# Altium schematic symbol library 三电平变换器.SCHLIB: 105 symbols
Pins are listed as number, name and electrical type; pins without a type are passive.

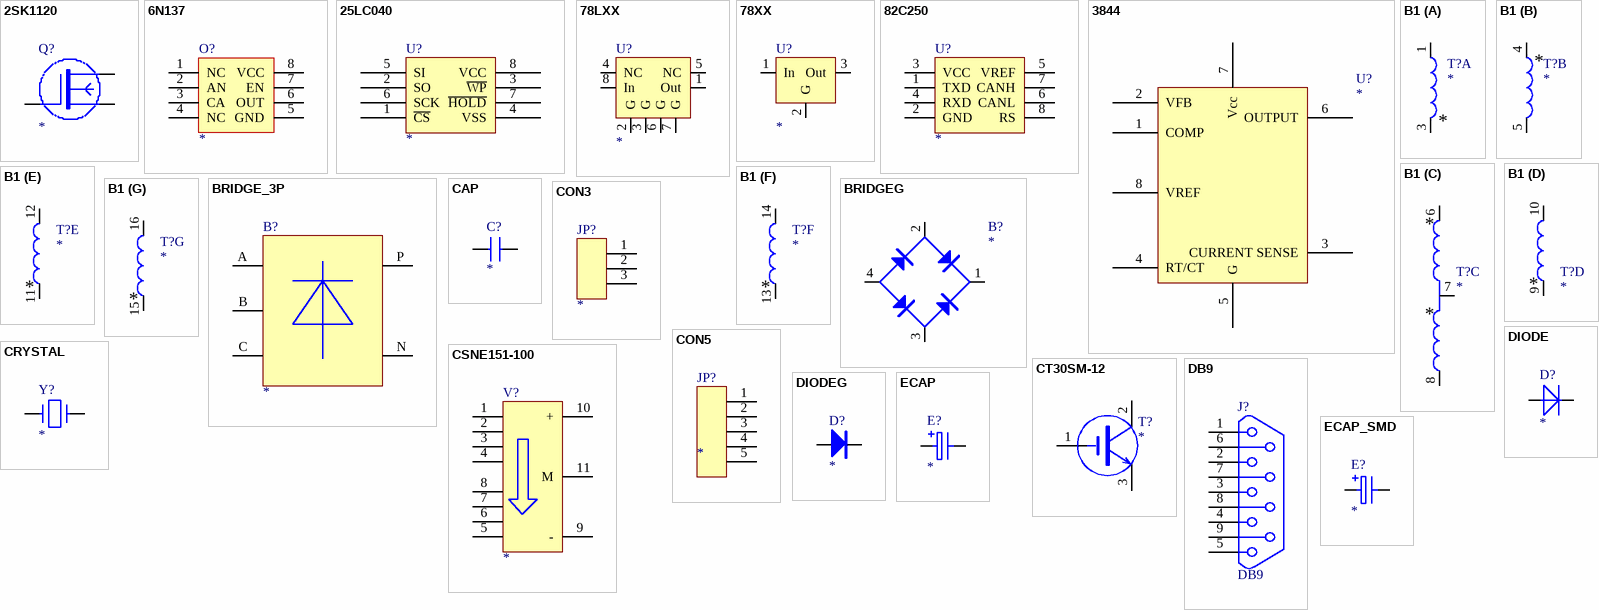
[diagram p0: symbols 2SK1120 to ECAP_SMD]

## 2SK1120
designator Q?
footprint TO_220B
pins: 1 C, 2 D, 3 S
2 alternate drawings of the same symbol

## 6N137
designator O?
IGBT or PMOS driver. Iin5mA, Vcc10~35V
footprint DIP8
footprint SO8
pins: 1 NC, 2 AN, 3 CA, 4 NC, 5 GND, 6 OUT, 7 EN, 8 VCC
2 alternate drawings of the same symbol

## 25LC040
designator U?
footprint SOP8-50-300
pins: 1 ~{CS}, 2 SO, 3 ~{WP}, 4 VSS, 5 SI, 6 SCK, 7 ~{HOLD}, 8 VCC
2 alternate drawings of the same symbol

## 78LXX
designator U?
78LXX, 3-Terminal 1A Positive Voltage Regulator
footprint SO8 (Small Outline; 8 Leads; Body Width 3.9 mm; Pitch 1.27 mm)
pins: 1 Out, 2 G, 3 G, 4 NC, 5 NC, 6 G, 7 G, 8 In
2 alternate drawings of the same symbol

## 78XX
designator U?
footprint TO_220D
pins: 1 In, 2 G, 3 Out
2 alternate drawings of the same symbol

## 82C250
designator U?
footprint SMD8
pins: 1 TXD, 2 GND, 3 VCC, 4 RXD, 5 VREF, 6 CANL, 7 CANH, 8 RS
2 alternate drawings of the same symbol

## 3844
designator U?
footprint DIP8
pins: 1 COMP, 2 VFB, 3 CURRENT SENSE, 4 RT/CT, 5 G, 6 OUTPUT, 7 Vcc (power), 8 VREF
2 alternate drawings of the same symbol

## B1
designator T?
footprint EC40
part A pins: 1, 3
part B pins: 4, 5
part C pins: 6, 7, 8
part D pins: 9, 10
part E pins: 11, 12
part F pins: 13, 14
part G pins: 15, 16
2 alternate drawings of the same symbol

## BRIDGE_3P
designator B?
footprint BR-SBR3516 (三相不控整流桥)
footprint SKD50 (3相不控整流桥by SEMIKRON 50A)
pins: A, B, C, N, P
2 alternate drawings of the same symbol

## BRIDGEG
designator B?
footprint BRIDGE
pins: 1, 2, 3, 4
2 alternate drawings of the same symbol

## CAP
designator C?
footprint RAD-0.2
footprint RAD-0.4
footprint 0805C
footprint RAD-0.3
pins: 1, 2
2 alternate drawings of the same symbol

## CON3
designator JP?
footprint SIP3-0.1 (3芯排针)
pins: 1, 2, 3
2 alternate drawings of the same symbol

## CON5
designator JP?
footprint SIP5-0.1 (5芯排针)
pins: 1, 2, 3, 4, 5
2 alternate drawings of the same symbol

## CRYSTAL
designator Y?
Crystal
footprint SXTAL
pins: 1, 2
2 alternate drawings of the same symbol

## CSNE151-100
designator V?
Honeywell 100A Current Sensor
footprint CSNE151-100
pins: 1, 2, 3, 4, 5, 6, 7, 8, 9 -, 10 +, 11 M
2 alternate drawings of the same symbol

## CT30SM-12
designator T?
IGBT 600V,30A
footprint TO_220B
pins: 1, 2, 3
2 alternate drawings of the same symbol

## DB9
designator J?
footprint DB-9
pins: 1, 2, 3, 4, 5, 6, 7, 8, 9

## DIODE
designator D?
footprint 1206D
footprint DO-41
pins: 1, 2
2 alternate drawings of the same symbol

## DIODEG
designator D?
footprint SC-1206
pins: A, K
2 alternate drawings of the same symbol

## ECAP
designator E?
Electrolytic Capacitor
footprint RB-0.4 (有极性焊盘间距400mil)
footprint RB-0.3 (有极性焊盘间距300mil)
footprint RB-0.2 (有极性焊盘间距200mil)
footprint RB.1/.2
footprint RB-0.1 (有极性焊盘间距100mil)
pins: A, K
2 alternate drawings of the same symbol

## ECAP_SMD
designator E?
Electrolytic Capacitor
footprint SC-1206 (贴片,焊盘距离140mil)
footprint SC-6.3*7 (贴片,焊盘距离240mil)
pins: A, K
2 alternate drawings of the same symbol

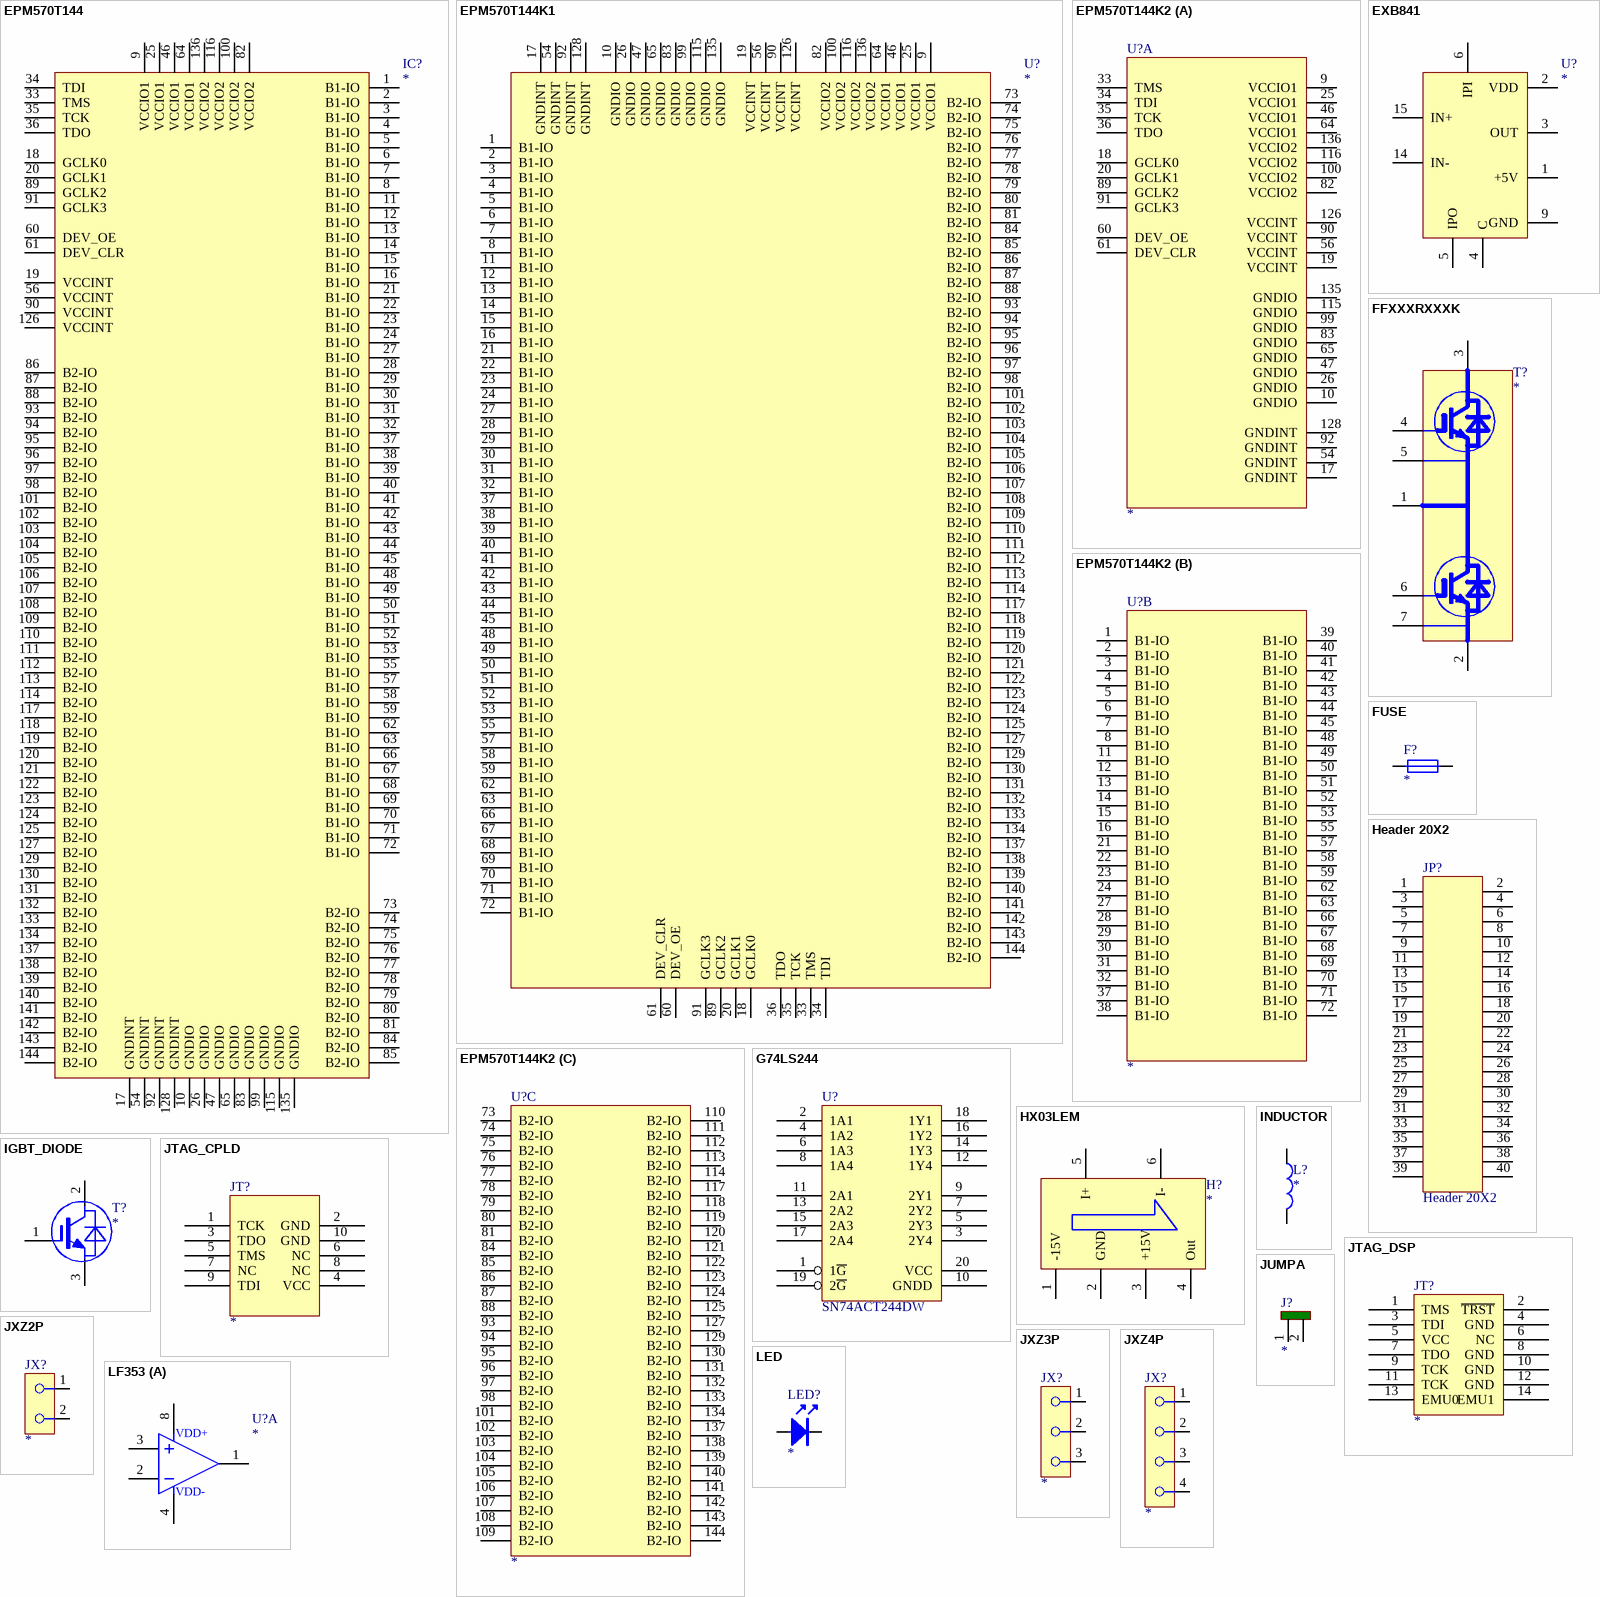
[diagram p1: symbols EPM570T144 to LF353]

## EPM570T144
designator IC?
footprint TQFP-144
pins: 1 B1-IO, 2 B1-IO, 3 B1-IO, 4 B1-IO, 5 B1-IO, 6 B1-IO, 7 B1-IO, 8 B1-IO, 9 VCCIO1, 10 GNDIO, 11 B1-IO, 12 B1-IO, 13 B1-IO, 14 B1-IO, 15 B1-IO, 16 B1-IO, 17 GNDINT, 18 GCLK0, 19 VCCINT, 20 GCLK1, 21 B1-IO, 22 B1-IO, 23 B1-IO, 24 B1-IO, 25 VCCIO1, 26 GNDIO, 27 B1-IO, 28 B1-IO, 29 B1-IO, 30 B1-IO, 31 B1-IO, 32 B1-IO, 33 TMS, 34 TDI, 35 TCK, 36 TDO, 37 B1-IO, 38 B1-IO, 39 B1-IO, 40 B1-IO, 41 B1-IO, 42 B1-IO, 43 B1-IO, 44 B1-IO, 45 B1-IO, 46 VCCIO1, 47 GNDIO, 48 B1-IO, 49 B1-IO, 50 B1-IO, 51 B1-IO, 52 B1-IO, 53 B1-IO, 54 GNDINT, 55 B1-IO, 56 VCCINT, 57 B1-IO, 58 B1-IO, 59 B1-IO, 60 DEV_OE, 61 DEV_CLR, 62 B1-IO, 63 B1-IO, 64 VCCIO1, 65 GNDIO, 66 B1-IO, 67 B1-IO, 68 B1-IO, 69 B1-IO, 70 B1-IO, 71 B1-IO, 72 B1-IO, 73 B2-IO, 74 B2-IO, 75 B2-IO, 76 B2-IO, 77 B2-IO, 78 B2-IO, 79 B2-IO, 80 B2-IO, 81 B2-IO, 82 VCCIO2, 83 GNDIO, 84 B2-IO, 85 B2-IO, 86 B2-IO, 87 B2-IO, 88 B2-IO, 89 GCLK2, 90 VCCINT, 91 GCLK3, 92 GNDINT, 93 B2-IO, 94 B2-IO, 95 B2-IO, 96 B2-IO, 97 B2-IO, 98 B2-IO, 99 GNDIO, 100 VCCIO2, 101 B2-IO, 102 B2-IO, 103 B2-IO, 104 B2-IO, 105 B2-IO, 106 B2-IO, 107 B2-IO, 108 B2-IO, 109 B2-IO, 110 B2-IO, 111 B2-IO, 112 B2-IO, 113 B2-IO, 114 B2-IO, 115 GNDIO, 116 VCCIO2, 117 B2-IO, 118 B2-IO, 119 B2-IO, 120 B2-IO, 121 B2-IO, 122 B2-IO, 123 B2-IO, 124 B2-IO, 125 B2-IO, 126 VCCINT, 127 B2-IO, 128 GNDINT, 129 B2-IO, 130 B2-IO, 131 B2-IO, 132 B2-IO, 133 B2-IO, 134 B2-IO, 135 GNDIO, 136 VCCIO2, 137 B2-IO, 138 B2-IO, 139 B2-IO, 140 B2-IO, 141 B2-IO, 142 B2-IO, 143 B2-IO, 144 B2-IO
2 alternate drawings of the same symbol

## EPM570T144K1
designator U?
footprint TQFP-144
pins: 1 B1-IO, 2 B1-IO, 3 B1-IO, 4 B1-IO, 5 B1-IO, 6 B1-IO, 7 B1-IO, 8 B1-IO, 9 VCCIO1, 10 GNDIO, 11 B1-IO, 12 B1-IO, 13 B1-IO, 14 B1-IO, 15 B1-IO, 16 B1-IO, 17 GNDINT, 18 GCLK0, 19 VCCINT, 20 GCLK1, 21 B1-IO, 22 B1-IO, 23 B1-IO, 24 B1-IO, 25 VCCIO1, 26 GNDIO, 27 B1-IO, 28 B1-IO, 29 B1-IO, 30 B1-IO, 31 B1-IO, 32 B1-IO, 33 TMS, 34 TDI, 35 TCK, 36 TDO, 37 B1-IO, 38 B1-IO, 39 B1-IO, 40 B1-IO, 41 B1-IO, 42 B1-IO, 43 B1-IO, 44 B1-IO, 45 B1-IO, 46 VCCIO1, 47 GNDIO, 48 B1-IO, 49 B1-IO, 50 B1-IO, 51 B1-IO, 52 B1-IO, 53 B1-IO, 54 GNDINT, 55 B1-IO, 56 VCCINT, 57 B1-IO, 58 B1-IO, 59 B1-IO, 60 DEV_OE, 61 DEV_CLR, 62 B1-IO, 63 B1-IO, 64 VCCIO1, 65 GNDIO, 66 B1-IO, 67 B1-IO, 68 B1-IO, 69 B1-IO, 70 B1-IO, 71 B1-IO, 72 B1-IO, 73 B2-IO, 74 B2-IO, 75 B2-IO, 76 B2-IO, 77 B2-IO, 78 B2-IO, 79 B2-IO, 80 B2-IO, 81 B2-IO, 82 VCCIO2, 83 GNDIO, 84 B2-IO, 85 B2-IO, 86 B2-IO, 87 B2-IO, 88 B2-IO, 89 GCLK2, 90 VCCINT, 91 GCLK3, 92 GNDINT, 93 B2-IO, 94 B2-IO, 95 B2-IO, 96 B2-IO, 97 B2-IO, 98 B2-IO, 99 GNDIO, 100 VCCIO2, 101 B2-IO, 102 B2-IO, 103 B2-IO, 104 B2-IO, 105 B2-IO, 106 B2-IO, 107 B2-IO, 108 B2-IO, 109 B2-IO, 110 B2-IO, 111 B2-IO, 112 B2-IO, 113 B2-IO, 114 B2-IO, 115 GNDIO, 116 VCCIO2, 117 B2-IO, 118 B2-IO, 119 B2-IO, 120 B2-IO, 121 B2-IO, 122 B2-IO, 123 B2-IO, 124 B2-IO, 125 B2-IO, 126 VCCINT, 127 B2-IO, 128 GNDINT, 129 B2-IO, 130 B2-IO, 131 B2-IO, 132 B2-IO, 133 B2-IO, 134 B2-IO, 135 GNDIO, 136 VCCIO2, 137 B2-IO, 138 B2-IO, 139 B2-IO, 140 B2-IO, 141 B2-IO, 142 B2-IO, 143 B2-IO, 144 B2-IO
2 alternate drawings of the same symbol

## EPM570T144K2
designator U?
footprint TQFP-144
part A pins: 9 VCCIO1, 10 GNDIO, 17 GNDINT, 18 GCLK0, 19 VCCINT, 20 GCLK1, 25 VCCIO1, 26 GNDIO, 33 TMS, 34 TDI, 35 TCK, 36 TDO, 46 VCCIO1, 47 GNDIO, 54 GNDINT, 56 VCCINT, 60 DEV_OE, 61 DEV_CLR, 64 VCCIO1, 65 GNDIO, 82 VCCIO2, 83 GNDIO, 89 GCLK2, 90 VCCINT, 91 GCLK3, 92 GNDINT, 99 GNDIO, 100 VCCIO2, 115 GNDIO, 116 VCCIO2, 126 VCCINT, 128 GNDINT, 135 GNDIO, 136 VCCIO2
part B pins: 1 B1-IO, 2 B1-IO, 3 B1-IO, 4 B1-IO, 5 B1-IO, 6 B1-IO, 7 B1-IO, 8 B1-IO, 11 B1-IO, 12 B1-IO, 13 B1-IO, 14 B1-IO, 15 B1-IO, 16 B1-IO, 21 B1-IO, 22 B1-IO, 23 B1-IO, 24 B1-IO, 27 B1-IO, 28 B1-IO, 29 B1-IO, 30 B1-IO, 31 B1-IO, 32 B1-IO, 37 B1-IO, 38 B1-IO, 39 B1-IO, 40 B1-IO, 41 B1-IO, 42 B1-IO, 43 B1-IO, 44 B1-IO, 45 B1-IO, 48 B1-IO, 49 B1-IO, 50 B1-IO, 51 B1-IO, 52 B1-IO, 53 B1-IO, 55 B1-IO, 57 B1-IO, 58 B1-IO, 59 B1-IO, 62 B1-IO, 63 B1-IO, 66 B1-IO, 67 B1-IO, 68 B1-IO, 69 B1-IO, 70 B1-IO, 71 B1-IO, 72 B1-IO
part C pins: 73 B2-IO, 74 B2-IO, 75 B2-IO, 76 B2-IO, 77 B2-IO, 78 B2-IO, 79 B2-IO, 80 B2-IO, 81 B2-IO, 84 B2-IO, 85 B2-IO, 86 B2-IO, 87 B2-IO, 88 B2-IO, 93 B2-IO, 94 B2-IO, 95 B2-IO, 96 B2-IO, 97 B2-IO, 98 B2-IO, 101 B2-IO, 102 B2-IO, 103 B2-IO, 104 B2-IO, 105 B2-IO, 106 B2-IO, 107 B2-IO, 108 B2-IO, 109 B2-IO, 110 B2-IO, 111 B2-IO, 112 B2-IO, 113 B2-IO, 114 B2-IO, 117 B2-IO, 118 B2-IO, 119 B2-IO, 120 B2-IO, 121 B2-IO, 122 B2-IO, 123 B2-IO, 124 B2-IO, 125 B2-IO, 127 B2-IO, 129 B2-IO, 130 B2-IO, 131 B2-IO, 132 B2-IO, 133 B2-IO, 134 B2-IO, 137 B2-IO, 138 B2-IO, 139 B2-IO, 140 B2-IO, 141 B2-IO, 142 B2-IO, 143 B2-IO, 144 B2-IO
2 alternate drawings of the same symbol

## EXB841
designator U?
footprint EXB8
pins: 1 +5V, 2 VDD, 3 OUT, 4 C, 5 IPO, 6 IPI, 9 GND, 14 IN-, 15 IN+
2 alternate drawings of the same symbol

## FFXXXRXXXK
designator T?
FF150R12K, FF100R600K
footprint FF100R600K
footprint FF150R12K
pins: 1 1E2C, 2 2E, 3 1C, 4 1G, 5, 6 2G, 7
2 alternate drawings of the same symbol

## FUSE
designator F?
Fuse
footprint FUSE-5*30MM (保险管20A)
footprint FUSE-5*20MM (保险管)
pins: 1, 2
2 alternate drawings of the same symbol

## G74LS244
designator U?, comment SN74ACT244DW
Text Field1: pristel=\TTL74\74lsphnw.lib
footprint SOP20-50-400
pins: 1 1~{G}, 2 1A1, 3 2Y4, 4 1A2, 5 2Y3, 6 1A3, 7 2Y2, 8 1A4, 9 2Y1, 10 GNDD, 11 2A1, 12 1Y4, 13 2A2, 14 1Y3, 15 2A3, 16 1Y2, 17 2A4, 18 1Y1, 19 2~{G}, 20 VCC

## Header 20X2
designator JP?
Header, 20-Pin, Dual row; Revision: 17-Jul-2002: Re-released for DXP Platform.; Publisher: Altium Limited
footprint HDR2X20 (Connector; Header; 20x2 Position)
pins: 1, 2, 3, 4, 5, 6, 7, 8, 9, 10, 11, 12, 13, 14, 15, 16, 17, 18, 19, 20, 21, 22, 23, 24, 25, 26, 27, 28, 29, 30, 31, 32, 33, 34, 35, 36, 37, 38, 39, 40

## HX03LEM
designator H?
footprint HX03
pins: 1 -15V, 2 GND, 3 +15V, 4 Out, 5 I+, 6 I-
2 alternate drawings of the same symbol

## IGBT_DIODE
designator T?
IXSH30N60BD1_IGBT with Diode 600V 55A 140ns
footprint TO-247AD
footprint TO-268
footprint TO-264
pins: 1 G, 2 C, 3 E
2 alternate drawings of the same symbol

## INDUCTOR
designator L?
footprint AXIAL0.4
footprint 1206
pins: 1, 2
2 alternate drawings of the same symbol

## JTAG_CPLD
designator JT?
footprint IDC10
pins: 1 TCK, 2 GND, 3 TDO, 4 VCC, 5 TMS, 6 NC, 7 NC, 8 NC, 9 TDI, 10 GND
2 alternate drawings of the same symbol

## JTAG_DSP
designator JT?
footprint JTAG_DSP
pins: 1 TMS, 2 ~{TRST}, 3 TDI, 4 GND, 5 VCC, 6 NC, 7 TDO, 8 GND, 9 TCK, 10 GND, 11 TCK, 12 GND, 13 EMU0, 14 EMU1
2 alternate drawings of the same symbol

## JUMPA
designator J?
母线上的跳线
footprint SIP2-0.1 (2芯排针)
pins: 1, 2
2 alternate drawings of the same symbol

## JXZ2P
designator JX?
footprint PIN2-0.3 (2芯插座, 焊盘间距300mil)
pins: 1, 2
2 alternate drawings of the same symbol

## JXZ3P
designator JX?
footprint PIN3-0.3 (3芯插座, 焊盘间距300mil)
footprint PIN3-0.2 (3芯插座, 焊盘间距200mil)
pins: 1, 2, 3
2 alternate drawings of the same symbol

## JXZ4P
designator JX?
footprint PIN4-0.3 (4芯插座, 焊盘间距300mil)
footprint PIN4-0.2 (4芯插座, 焊盘间距200mil)
pins: 1, 2, 3, 4
2 alternate drawings of the same symbol

## LED
designator LED?
footprint LED-0.1
footprint SLED-0805
pins: A, K
2 alternate drawings of the same symbol

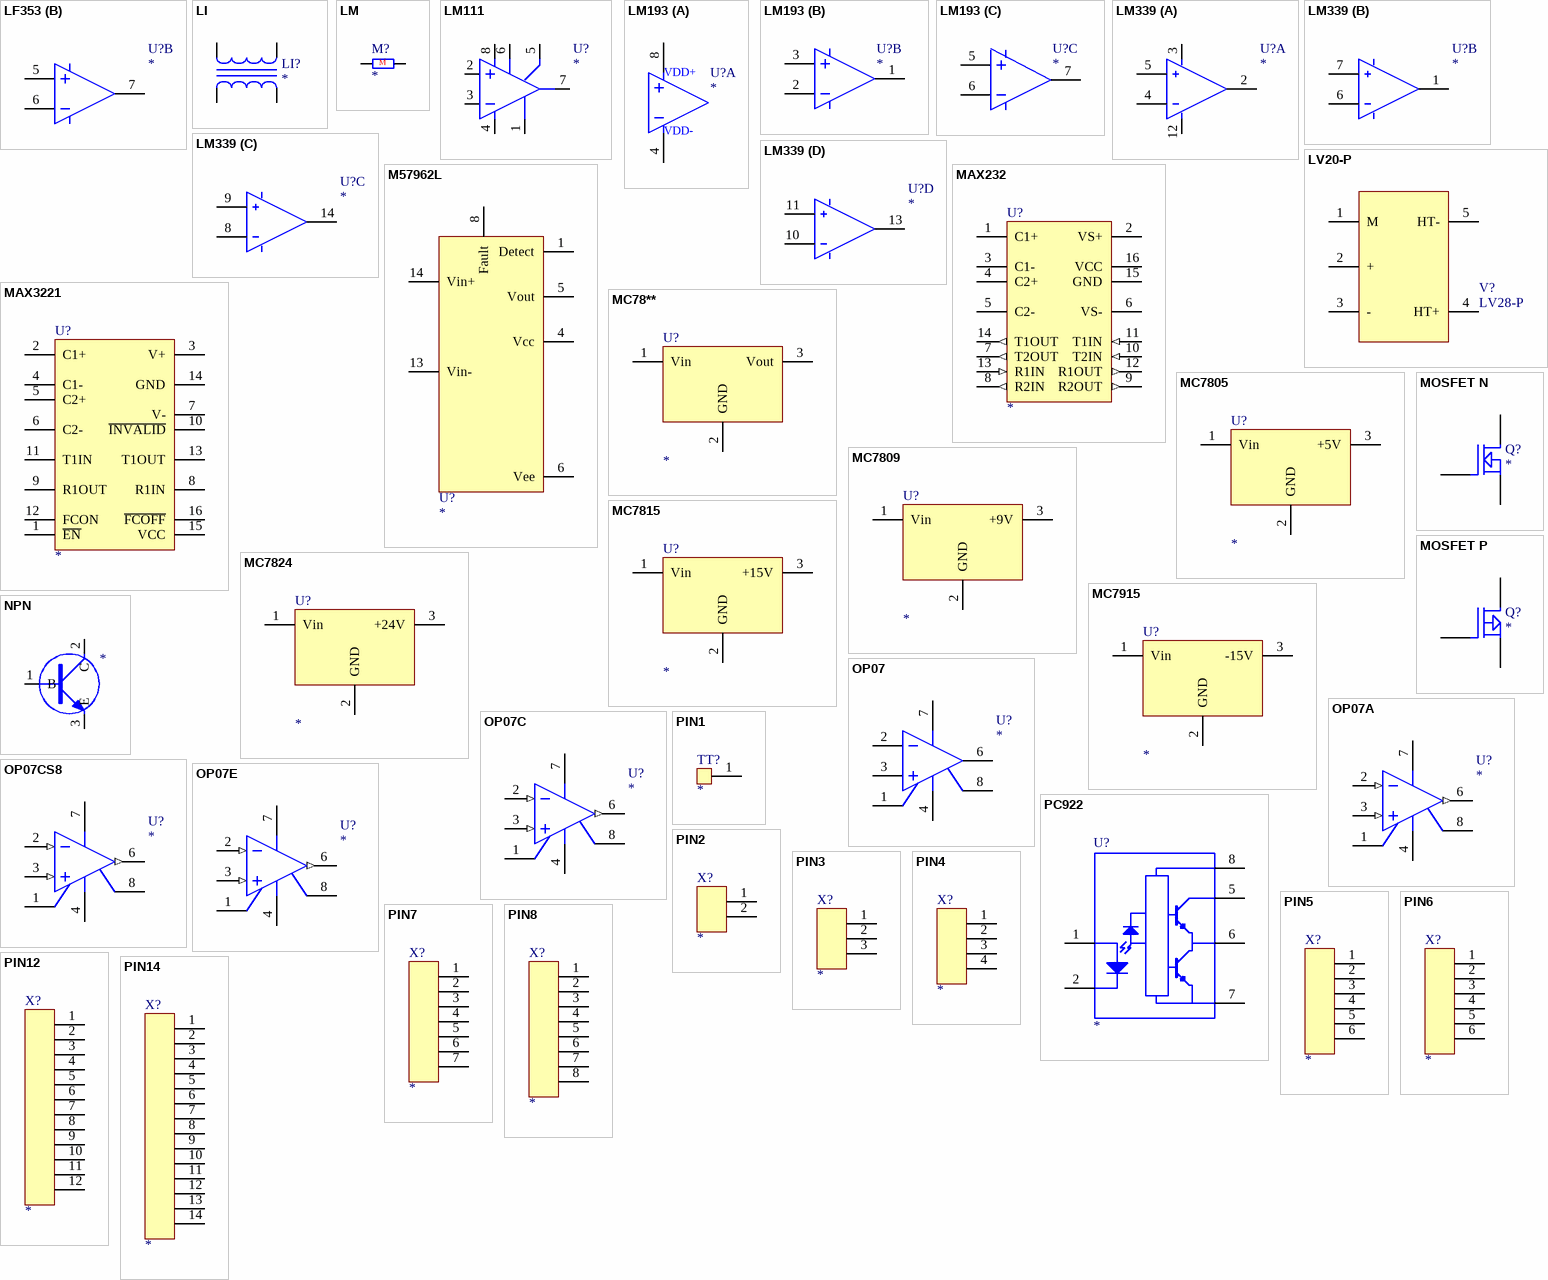
[diagram p2: symbols LF353 to PIN14]

## LF353
designator U?
footprint DIP8
footprint SO8
part A pins: 1, 2, 3, 4, 8
part B pins: 5, 6, 7
2 alternate drawings of the same symbol
part A text: VDD+; VDD-

## LI
designator LI?
footprint EL1
pins: 1, 2, 3, 4
2 alternate drawings of the same symbol

## LM
designator M?
footprint AXIAL0.6
footprint AXIAL0.8
pins: 1, 2
2 alternate drawings of the same symbol
text: M

## LM111
designator U?
footprint DIP8
pins: 1, 2, 3, 4, 5, 6, 7, 8
2 alternate drawings of the same symbol

## LM193
designator U?
footprint DIP8
part A pins: 4, 8
part B pins: 1, 2, 3
part C pins: 5, 6, 7
2 alternate drawings of the same symbol
part A text: VDD-

## LM339
designator U?
footprint SMD14
part A pins: 2, 3, 4, 5, 12
part B pins: 1, 6, 7
part C pins: 8, 9, 14
part D pins: 10, 11, 13
2 alternate drawings of the same symbol

## LV20-P
designator V?, comment LV28-P
footprint LV20-P
pins: 1 M, 2 +, 3 -, 4 HT+, 5 HT-

## M57962L
designator U?
footprint M57962L
pins: 1 Detect, 4 Vcc, 5 Vout, 6 Vee, 8 Fault, 13 Vin-, 14 Vin+
2 alternate drawings of the same symbol

## MAX232
designator U?
footprint SO16
footprint DIP16
pins: 1 C1+ (power), 2 VS+ (power), 3 C1- (power), 4 C2+ (power), 5 C2- (power), 6 VS- (power), 7 T2OUT (out), 8 R2IN (out), 9 R2OUT (out), 10 T2IN (in), 11 T1IN (in), 12 R1OUT (out), 13 R1IN (in), 14 T1OUT (out), 15 GND (power), 16 VCC (power)
2 alternate drawings of the same symbol

## MAX3221
designator U?
footprint SO16
pins: 1 ~{EN}, 2 C1+, 3 V+, 4 C1-, 5 C2+, 6 C2-, 7 V-, 8 R1IN, 9 R1OUT, 10 ~{INVALID}, 11 T1IN, 12 FCON, 13 T1OUT, 14 GND, 15 VCC, 16 ~{FCOFF}
2 alternate drawings of the same symbol

## MC78**
designator U?
footprint TO_220A
footprint TO_220B
pins: 1 Vin, 2 GND, 3 Vout
2 alternate drawings of the same symbol

## MC7805
designator U?
footprint TO_220A
footprint TO_220B
pins: 1 Vin, 2 GND, 3 +5V
2 alternate drawings of the same symbol

## MC7809
designator U?
footprint TO_220A
footprint TO_220B
pins: 1 Vin, 2 GND, 3 +9V
2 alternate drawings of the same symbol

## MC7815
designator U?
footprint TO_220A
footprint TO_220B
pins: 1 Vin, 2 GND, 3 +15V
2 alternate drawings of the same symbol

## MC7824
designator U?
footprint TO_220A
footprint TO_220B
pins: 1 Vin, 2 GND, 3 +24V
2 alternate drawings of the same symbol

## MC7915
designator U?
footprint TO_220A
footprint TO_220B
pins: 1 Vin, 2 GND, 3 -15V
2 alternate drawings of the same symbol

## MOSFET N
designator Q?
footprint TO_220D
pins: 1, 2, 3 S
2 alternate drawings of the same symbol

## MOSFET P
designator Q?
footprint TO_220D
pins: 1, 2, 3
2 alternate drawings of the same symbol

## NPN
designator ?
footprint SOT-23-P1.9-2
pins: 1 B, 2 C, 3 E
2 alternate drawings of the same symbol

## OP07
designator U?
Precision Operational Amplifier
footprint SO8
footprint DIP8
pins: 1, 2, 3, 4 (power), 6, 7 (power), 8
2 alternate drawings of the same symbol

## OP07A
designator U?
Precision Operational Amplifier
footprint SO8
footprint DIP8
pins: 1, 2 (in), 3 (in), 4 (power), 6 (out), 7 (power), 8
2 alternate drawings of the same symbol

## OP07C
designator U?
Precision Operational Amplifier
footprint SO8
footprint DIP8
pins: 1, 2 (in), 3 (in), 4 (power), 6 (out), 7 (power), 8
2 alternate drawings of the same symbol

## OP07CS8
designator U?
Precision Operational Amplifier
footprint SO8
footprint DIP8
pins: 1, 2 (in), 3 (in), 4 (power), 6 (out), 7 (power), 8
2 alternate drawings of the same symbol

## OP07E
designator U?
Precision Operational Amplifier
footprint SO8
footprint DIP8
pins: 1, 2 (in), 3 (in), 4 (power), 6 (out), 7 (power), 8
2 alternate drawings of the same symbol

## PC922
designator U?
footprint DIP8
pins: 1, 2, 5, 6, 7, 8
2 alternate drawings of the same symbol

## PIN1
designator TT?
footprint SIP1 (Footprint not found)
pins: 1
2 alternate drawings of the same symbol

## PIN2
designator X?
footprint PIN2-0.3 (2芯插座, 焊盘间距300mil)
footprint PIN2-0.2 (2芯插座, 焊盘间距200mil)
footprint PIN2-0.1 (2芯插座, 焊盘间距100mil)
pins: 1, 2
2 alternate drawings of the same symbol

## PIN3
designator X?
footprint PIN3-0.2 (3芯插座, 焊盘间距200mil)
footprint PIN3-0.3 (3芯插座, 焊盘间距300mil)
footprint PIN3-3.5MM (3芯插座, 焊盘间距3.5mm)
pins: 1, 2, 3
2 alternate drawings of the same symbol

## PIN4
designator X?
footprint PIN4-0.2 (4芯插座, 焊盘间距200mil)
footprint PIN4-0.3 (4芯插座, 焊盘间距300mil)
pins: 1, 2, 3, 4
2 alternate drawings of the same symbol

## PIN5
designator X?
footprint PIN5-0.2 (5芯插座, 焊盘间距200mil)
footprint PIN5-3.5MM (5芯插座, 焊盘间距3.5mm)
pins: 1, 2, 3, 4, 5, 6
2 alternate drawings of the same symbol

## PIN6
designator X?
footprint PIN6-0.2 (6芯插座, 焊盘间距200mil)
footprint PIN6-3.5MM (6.芯插座, 焊盘间距3.5mm)
pins: 1, 2, 3, 4, 5, 6
2 alternate drawings of the same symbol

## PIN7
designator X?
footprint PIN7-0.2 (Footprint not found)
pins: 1, 2, 3, 4, 5, 6, 7
2 alternate drawings of the same symbol

## PIN8
designator X?
footprint PIN8-0.2 (8芯插座, 焊盘间距200mil)
footprint PIN8-3.5MM (8.芯插座, 焊盘间距3.5mm)
pins: 1, 2, 3, 4, 5, 6, 7, 8
2 alternate drawings of the same symbol

## PIN12
designator X?
footprint PIN12-0.2 (12芯插座, 焊盘间距200mil)
footprint PIN12-3.5MM (8.芯插座, 焊盘间距3.5mm)
pins: 1, 2, 3, 4, 5, 6, 7, 8, 9, 10, 11, 12
2 alternate drawings of the same symbol

## PIN14
designator X?
footprint PIN14-0.2 (Footprint not found)
footprint PIN14-3.5MM (Footprint not found)
pins: 1, 2, 3, 4, 5, 6, 7, 8, 9, 10, 11, 12, 13, 14
2 alternate drawings of the same symbol

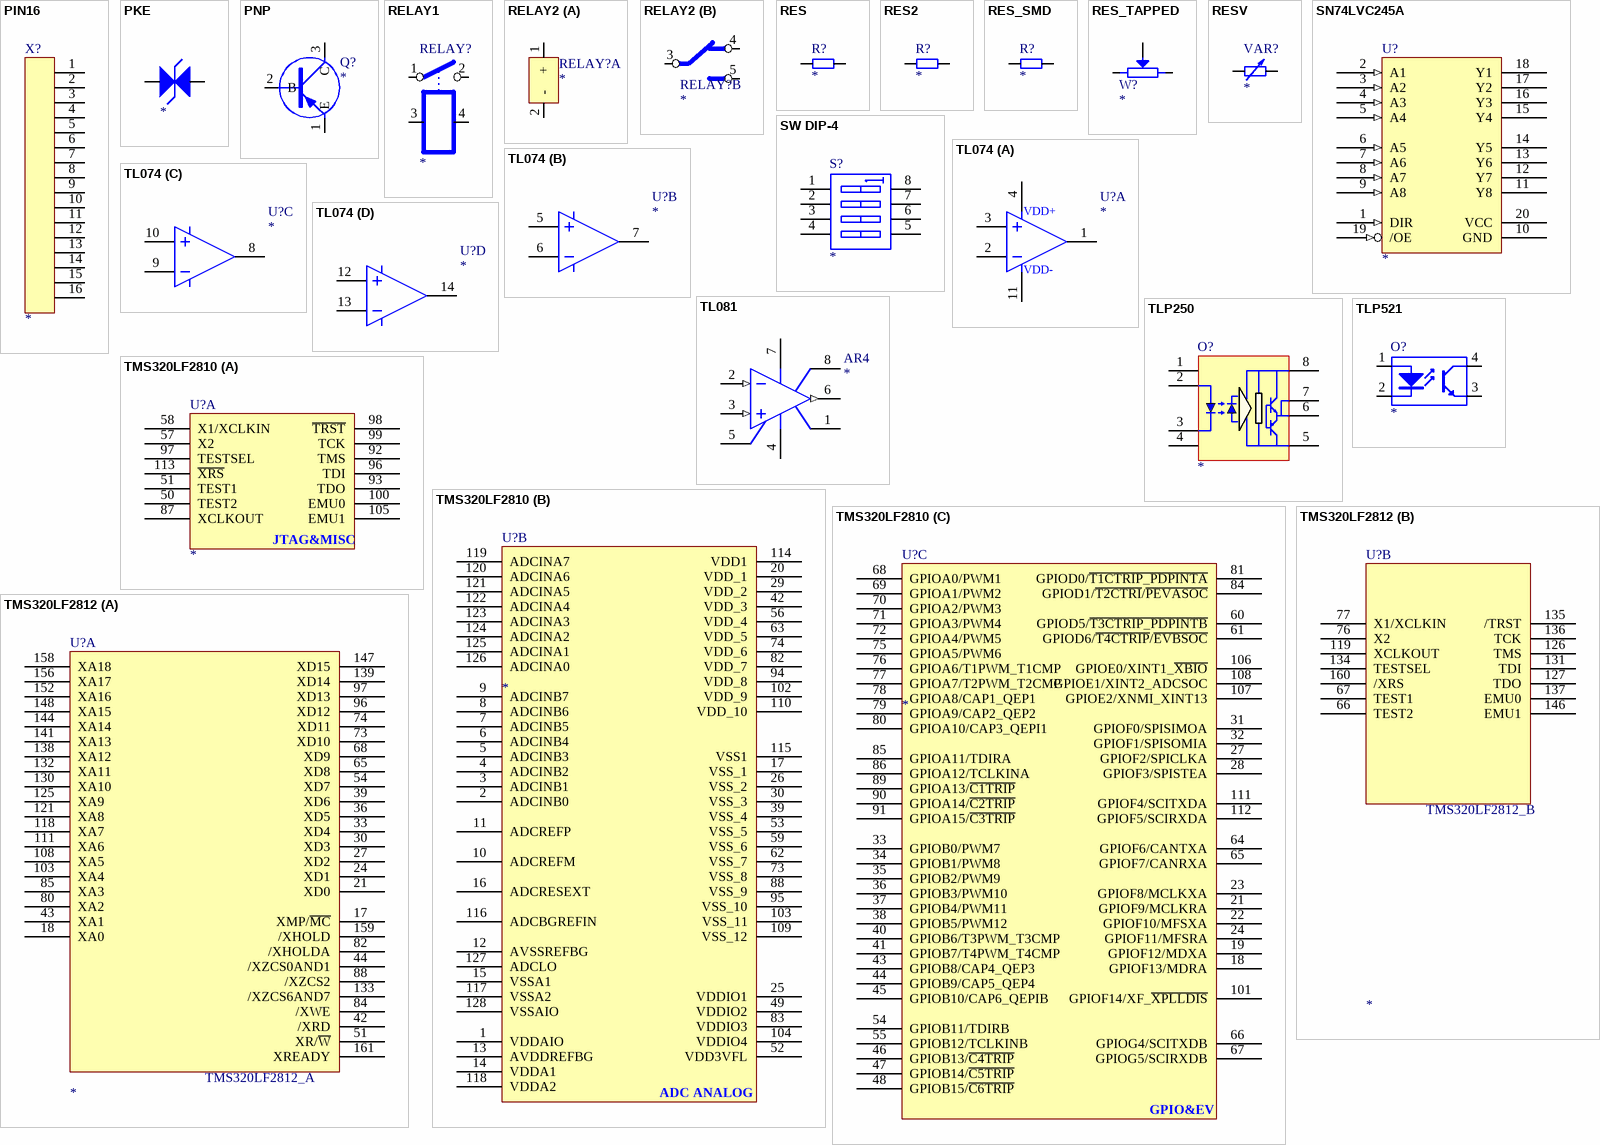
[diagram p3: symbols PIN16 to TMS320LF2812]

## PIN16
designator X?
footprint PIN16-0.2 (Footprint not found)
footprint PIN16-3.5MM (Footprint not found)
pins: 1, 2, 3, 4, 5, 6, 7, 8, 9, 10, 11, 12, 13, 14, 15, 16
2 alternate drawings of the same symbol

## PKE
designator ?
pins: 1, 2
2 alternate drawings of the same symbol

## PNP
designator Q?
BC807-16LT1 PNP Transistor
footprint SOT-23
pins: 1 E, 2 B, 3 C
2 alternate drawings of the same symbol

## RELAY1
designator RELAY?
JTN1ASPAFDC15V
footprint JQC-3FB
pins: 1, 2, 3, 4
2 alternate drawings of the same symbol

## RELAY2
designator RELAY?
footprint JQC-3FB
part A pins: 1 + (power), 2 - (power)
part B pins: 3 (io), 4 (io), 5 (io)
2 alternate drawings of the same symbol

## RES
designator R?
footprint 0805R
footprint 1206
pins: 1, 2
2 alternate drawings of the same symbol

## RES2
designator R?
footprint AXIAL0.4
footprint AXIAL0.6
footprint AXIAL0.8
footprint AXIAL1.2
pins: 1, 2
2 alternate drawings of the same symbol

## RES_SMD
designator R?
footprint 0805R
pins: 1, 2
2 alternate drawings of the same symbol

## RES_TAPPED
designator W?
footprint 3296
footprint VR-3362
pins: 1, 2, 3
2 alternate drawings of the same symbol

## RESV
designator VAR?
footprint 1206
footprint R-VR-0.4 (压敏电阻, 焊盘间距400mil)
pins: 1, 2
2 alternate drawings of the same symbol

## SN74LVC245A
designator U?
footprint SOP20-50-400
footprint DIP20
pins: 1 DIR (in), 2 A1 (in), 3 A2 (in), 4 A3 (in), 5 A4 (in), 6 A5 (in), 7 A6 (in), 8 A7 (in), 9 A8 (in), 10 GND (power), 11 Y8 (hiz), 12 Y7 (hiz), 13 Y6 (hiz), 14 Y5 (hiz), 15 Y4 (hiz), 16 Y3 (hiz), 17 Y2 (hiz), 18 Y1 (hiz), 19 /OE (in), 20 VCC (power)
2 alternate drawings of the same symbol

## SW DIP-4
designator S?
DIP Switch
footprint DMR-04
pins: 1, 2, 3, 4, 5, 6, 7, 8
2 alternate drawings of the same symbol

## TL074
designator U?
footprint SO14
part A pins: 1, 2, 3, 4, 11
part B pins: 5, 6, 7
part C pins: 8, 9, 10
part D pins: 12, 13, 14
2 alternate drawings of the same symbol
part A text: VDD+; VDD-

## TL081
designator AR4
FET Operational Amplifier; Published: *; LatestRevisionDate: *; LatestRevisionNote: *; DatasheetDocument: *; PackageReference: *; Publisher: *
footprint SO8 (Small Outline; 8 Leads; Body Width 3.9 mm; Pitch 1.27 mm)
footprint DIP8
pins: 1, 2 (in), 3 (in), 4 (power), 5, 6 (out), 7 (power), 8
2 alternate drawings of the same symbol

## TLP250
designator O?
IGBT or PMOS driver. Iin5mA, Vcc10~35V
footprint DIP8
pins: 1, 2, 3, 4, 5, 6, 7, 8
2 alternate drawings of the same symbol

## TLP521
designator O?
footprint SOP4-100-300 (贴片, 4脚)
pins: 1, 2, 3, 4
2 alternate drawings of the same symbol

## TMS320LF2810
designator U?
footprint TMS320F2810PQFP
part A pins: 50 TEST2, 51 TEST1, 57 X2, 58 X1/XCLKIN, 87 XCLKOUT, 92 TMS, 93 TDO, 96 TDI, 97 TESTSEL, 98 ~{TRST}, 99 TCK, 100 EMU0, 105 EMU1, 113 ~{XRS}
part B pins: 1 VDDAIO, 2 ADCINB0, 3 ADCINB1, 4 ADCINB2, 5 ADCINB3, 6 ADCINB4, 7 ADCINB5, 8 ADCINB6, 9 ADCINB7, 10 ADCREFM, 11 ADCREFP, 12 AVSSREFBG, 13 AVDDREFBG, 14 VDDA1, 15 VSSA1, 16 ADCRESEXT, 17 VSS_1, 20 VDD_1, 25 VDDIO1, 26 VSS_2, 29 VDD_2, 30 VSS_3, 39 VSS_4, 42 VDD_3, 49 VDDIO2, 52 VDD3VFL, 53 VSS_5, 56 VDD_4, 59 VSS_6, 62 VSS_7, 63 VDD_5, 73 VSS_8, 74 VDD_6, 82 VDD_7, 83 VDDIO3, 88 VSS_9, 94 VDD_8, 95 VSS_10, 102 VDD_9, 103 VSS_11, 104 VDDIO4, 109 VSS_12, 110 VDD_10, 114 VDD1, 115 VSS1, 116 ADCBGREFIN, 117 VSSA2, 118 VDDA2, 119 ADCINA7, 120 ADCINA6, 121 ADCINA5, 122 ADCINA4, 123 ADCINA3, 124 ADCINA2, 125 ADCINA1, 126 ADCINA0, 127 ADCLO, 128 VSSAIO
part C pins: 18 GPIOF13/MDRA, 19 GPIOF12/MDXA, 21 GPIOF9/MCLKRA, 22 GPIOF10/MFSXA, 23 GPIOF8/MCLKXA, 24 GPIOF11/MFSRA, 27 GPIOF2/SPICLKA, 28 GPIOF3/SPISTEA, 31 GPIOF0/SPISIMOA, 32 GPIOF1/SPISOMIA, 33 GPIOB0/PWM7, 34 GPIOB1/PWM8, 35 GPIOB2/PWM9, 36 GPIOB3/PWM10, 37 GPIOB4/PWM11, 38 GPIOB5/PWM12, 40 GPIOB6/T3PWM_T3CMP, 41 GPIOB7/T4PWM_T4CMP, 43 GPIOB8/CAP4_QEP3, 44 GPIOB9/CAP5_QEP4, 45 GPIOB10/CAP6_QEPIB, 46 GPIOB13/~{C4TRIP}, 47 GPIOB14/~{C5TRIP}, 48 GPIOB15/~{C6TRIP}, 54 GPIOB11/TDIRB, 55 GPIOB12/TCLKINB, 60 GPIOD5/~{T3CTRIP_PDPINTB}, 61 GPIOD6/~{T4CTRIP}/~{EVBSOC}, 64 GPIOF6/CANTXA, 65 GPIOF7/CANRXA, 66 GPIOG4/SCITXDB, 67 GPIOG5/SCIRXDB, 68 GPIOA0/PWM1, 69 GPIOA1/PWM2, 70 GPIOA2/PWM3, 71 GPIOA3/PWM4, 72 GPIOA4/PWM5, 75 GPIOA5/PWM6, 76 GPIOA6/T1PWM_T1CMP, 77 GPIOA7/T2PWM_T2CMP, 78 GPIOA8/CAP1_QEP1, 79 GPIOA9/CAP2_QEP2, 80 GPIOA10/CAP3_QEPI1, 81 GPIOD0/~{T1CTRIP_PDPINTA}, 84 GPIOD1/~{T2CTRI}/~{PEVASOC}, 85 GPIOA11/TDIRA, 86 GPIOA12/TCLKINA, 89 GPIOA13/~{C1TRIP}, 90 GPIOA14/~{C2TRIP}, 91 GPIOA15/~{C3TRIP}, 101 GPIOF14/XF_~{XPLLDIS}, 106 GPIOE0/XINT1_~{XBIO}, 107 GPIOE2/XNMI_XINT13, 108 GPIOE1/XINT2_ADCSOC, 111 GPIOF4/SCITXDA, 112 GPIOF5/SCIRXDA
2 alternate drawings of the same symbol
part A text: JTAG&MISC
part B text: ADC ANALOG
part C text: GPIO&EV

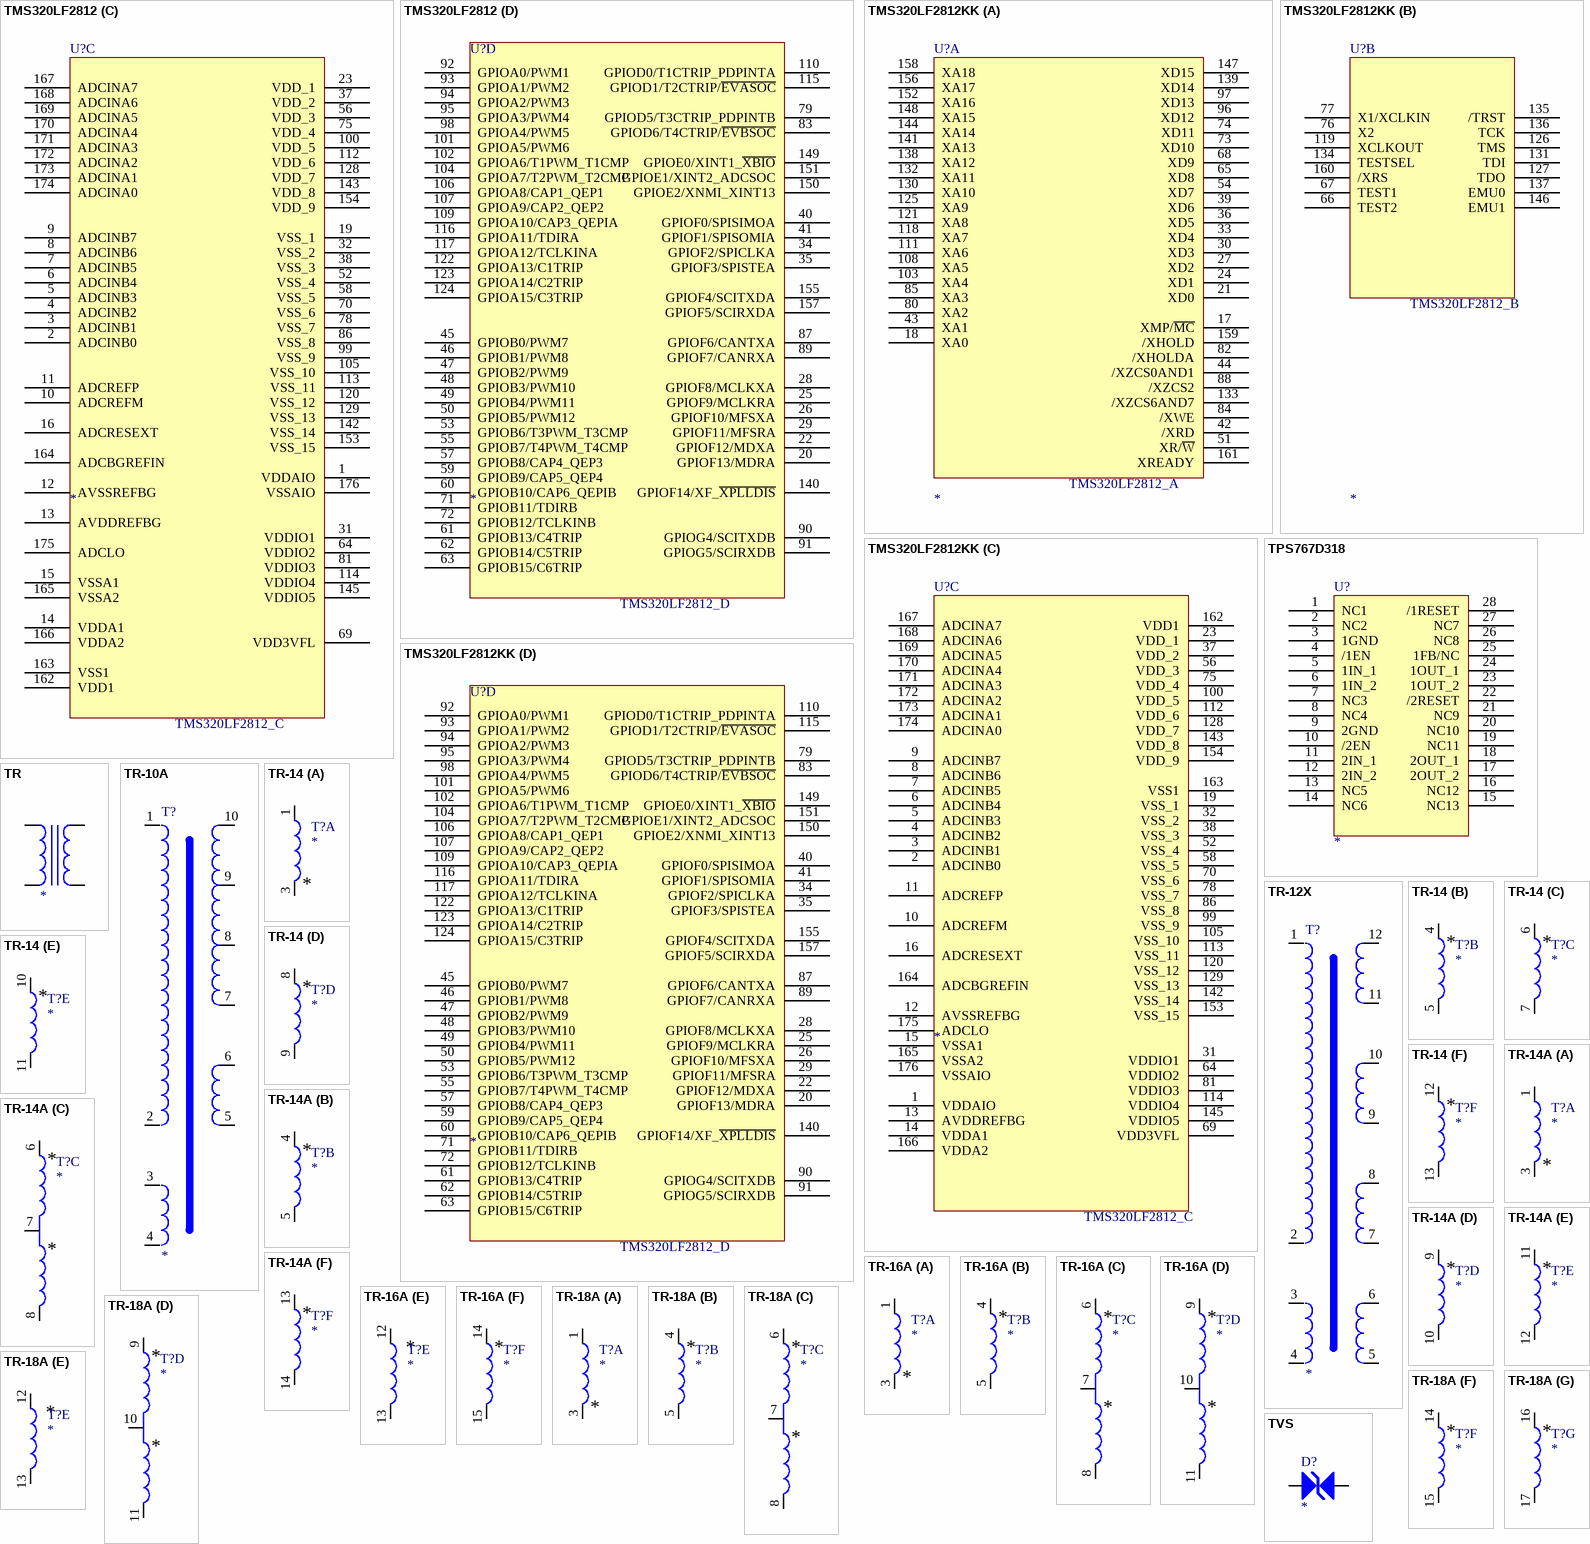
[diagram p4: symbols TMS320LF2812 to TVS]

## TMS320LF2812
designator U?
footprint TMS320F2812PGFA
part A pins: 17 XMP/~{MC}, 18 XA0, 21 XD0, 24 XD1, 27 XD2, 30 XD3, 33 XD4, 36 XD5, 39 XD6, 42 /XRD, 43 XA1, 44 /XZCS0AND1, 51 XR/~{W}, 54 XD7, 65 XD8, 68 XD9, 73 XD10, 74 XD11, 80 XA2, 82 /XHOLDA, 84 /XWE, 85 XA3, 88 /XZCS2, 96 XD12, 97 XD13, 103 XA4, 108 XA5, 111 XA6, 118 XA7, 121 XA8, 125 XA9, 130 XA10, 132 XA11, 133 /XZCS6AND7, 138 XA12, 139 XD14, 141 XA13, 144 XA14, 147 XD15, 148 XA15, 152 XA16, 156 XA17, 158 XA18, 159 /XHOLD, 161 XREADY
part B pins: 66 TEST2, 67 TEST1, 76 X2, 77 X1/XCLKIN, 119 XCLKOUT, 126 TMS, 127 TDO, 131 TDI, 134 TESTSEL, 135 /TRST, 136 TCK, 137 EMU0, 146 EMU1, 160 /XRS
part C pins: 1 VDDAIO, 2 ADCINB0, 3 ADCINB1, 4 ADCINB2, 5 ADCINB3, 6 ADCINB4, 7 ADCINB5, 8 ADCINB6, 9 ADCINB7, 10 ADCREFM, 11 ADCREFP, 12 AVSSREFBG, 13 AVDDREFBG, 14 VDDA1, 15 VSSA1, 16 ADCRESEXT, 19 VSS_1, 23 VDD_1, 31 VDDIO1, 32 VSS_2, 37 VDD_2, 38 VSS_3, 52 VSS_4, 56 VDD_3, 58 VSS_5, 64 VDDIO2, 69 VDD3VFL, 70 VSS_6, 75 VDD_4, 78 VSS_7, 81 VDDIO3, 86 VSS_8, 99 VSS_9, 100 VDD_5, 105 VSS_10, 112 VDD_6, 113 VSS_11, 114 VDDIO4, 120 VSS_12, 128 VDD_7, 129 VSS_13, 142 VSS_14, 143 VDD_8, 145 VDDIO5, 153 VSS_15, 154 VDD_9, 162 VDD1, 163 VSS1, 164 ADCBGREFIN, 165 VSSA2, 166 VDDA2, 167 ADCINA7, 168 ADCINA6, 169 ADCINA5, 170 ADCINA4, 171 ADCINA3, 172 ADCINA2, 173 ADCINA1, 174 ADCINA0, 175 ADCLO, 176 VSSAIO
part D pins: 20 GPIOF13/MDRA, 22 GPIOF12/MDXA, 25 GPIOF9/MCLKRA, 26 GPIOF10/MFSXA, 28 GPIOF8/MCLKXA, 29 GPIOF11/MFSRA, 34 GPIOF2/SPICLKA, 35 GPIOF3/SPISTEA, 40 GPIOF0/SPISIMOA, 41 GPIOF1/SPISOMIA, 45 GPIOB0/PWM7, 46 GPIOB1/PWM8, 47 GPIOB2/PWM9, 48 GPIOB3/PWM10, 49 GPIOB4/PWM11, 50 GPIOB5/PWM12, 53 GPIOB6/T3PWM_T3CMP, 55 GPIOB7/T4PWM_T4CMP, 57 GPIOB8/CAP4_QEP3, 59 GPIOB9/CAP5_QEP4, 60 GPIOB10/CAP6_QEPIB, 61 GPIOB13/C4TRIP, 62 GPIOB14/C5TRIP, 63 GPIOB15/C6TRIP, 71 GPIOB11/TDIRB, 72 GPIOB12/TCLKINB, 79 GPIOD5/T3CTRIP_PDPINTB, 83 GPIOD6/T4CTRIP/~{EVBSOC}, 87 GPIOF6/CANTXA, 89 GPIOF7/CANRXA, 90 GPIOG4/SCITXDB, 91 GPIOG5/SCIRXDB, 92 GPIOA0/PWM1, 93 GPIOA1/PWM2, 94 GPIOA2/PWM3, 95 GPIOA3/PWM4, 98 GPIOA4/PWM5, 101 GPIOA5/PWM6, 102 GPIOA6/T1PWM_T1CMP, 104 GPIOA7/T2PWM_T2CMP, 106 GPIOA8/CAP1_QEP1, 107 GPIOA9/CAP2_QEP2, 109 GPIOA10/CAP3_QEPIA, 110 GPIOD0/T1CTRIP_PDPINTA, 115 GPIOD1/T2CTRIP/~{EVASOC}, 116 GPIOA11/TDIRA, 117 GPIOA12/TCLKINA, 122 GPIOA13/C1TRIP, 123 GPIOA14/C2TRIP, 124 GPIOA15/C3TRIP, 140 GPIOF14/XF_~{XPLLDIS}, 149 GPIOE0/XINT1_~{XBIO}, 150 GPIOE2/XNMI_XINT13, 151 GPIOE1/XINT2_ADCSOC, 155 GPIOF4/SCITXDA, 157 GPIOF5/SCIRXDA
2 alternate drawings of the same symbol
part A text: TMS320LF2812_A
part B text: TMS320LF2812_B
part C text: TMS320LF2812_C
part D text: TMS320LF2812_D

## TMS320LF2812KK
designator U?
footprint TMS320F2812PGFA
part A pins: 17 XMP/~{MC}, 18 XA0, 21 XD0, 24 XD1, 27 XD2, 30 XD3, 33 XD4, 36 XD5, 39 XD6, 42 /XRD, 43 XA1, 44 /XZCS0AND1, 51 XR/~{W}, 54 XD7, 65 XD8, 68 XD9, 73 XD10, 74 XD11, 80 XA2, 82 /XHOLDA, 84 /XWE, 85 XA3, 88 /XZCS2, 96 XD12, 97 XD13, 103 XA4, 108 XA5, 111 XA6, 118 XA7, 121 XA8, 125 XA9, 130 XA10, 132 XA11, 133 /XZCS6AND7, 138 XA12, 139 XD14, 141 XA13, 144 XA14, 147 XD15, 148 XA15, 152 XA16, 156 XA17, 158 XA18, 159 /XHOLD, 161 XREADY
part B pins: 66 TEST2, 67 TEST1, 76 X2, 77 X1/XCLKIN, 119 XCLKOUT, 126 TMS, 127 TDO, 131 TDI, 134 TESTSEL, 135 /TRST, 136 TCK, 137 EMU0, 146 EMU1, 160 /XRS
part C pins: 1 VDDAIO, 2 ADCINB0, 3 ADCINB1, 4 ADCINB2, 5 ADCINB3, 6 ADCINB4, 7 ADCINB5, 8 ADCINB6, 9 ADCINB7, 10 ADCREFM, 11 ADCREFP, 12 AVSSREFBG, 13 AVDDREFBG, 14 VDDA1, 15 VSSA1, 16 ADCRESEXT, 19 VSS_1, 23 VDD_1, 31 VDDIO1, 32 VSS_2, 37 VDD_2, 38 VSS_3, 52 VSS_4, 56 VDD_3, 58 VSS_5, 64 VDDIO2, 69 VDD3VFL, 70 VSS_6, 75 VDD_4, 78 VSS_7, 81 VDDIO3, 86 VSS_8, 99 VSS_9, 100 VDD_5, 105 VSS_10, 112 VDD_6, 113 VSS_11, 114 VDDIO4, 120 VSS_12, 128 VDD_7, 129 VSS_13, 142 VSS_14, 143 VDD_8, 145 VDDIO5, 153 VSS_15, 154 VDD_9, 162 VDD1, 163 VSS1, 164 ADCBGREFIN, 165 VSSA2, 166 VDDA2, 167 ADCINA7, 168 ADCINA6, 169 ADCINA5, 170 ADCINA4, 171 ADCINA3, 172 ADCINA2, 173 ADCINA1, 174 ADCINA0, 175 ADCLO, 176 VSSAIO
part D pins: 20 GPIOF13/MDRA, 22 GPIOF12/MDXA, 25 GPIOF9/MCLKRA, 26 GPIOF10/MFSXA, 28 GPIOF8/MCLKXA, 29 GPIOF11/MFSRA, 34 GPIOF2/SPICLKA, 35 GPIOF3/SPISTEA, 40 GPIOF0/SPISIMOA, 41 GPIOF1/SPISOMIA, 45 GPIOB0/PWM7, 46 GPIOB1/PWM8, 47 GPIOB2/PWM9, 48 GPIOB3/PWM10, 49 GPIOB4/PWM11, 50 GPIOB5/PWM12, 53 GPIOB6/T3PWM_T3CMP, 55 GPIOB7/T4PWM_T4CMP, 57 GPIOB8/CAP4_QEP3, 59 GPIOB9/CAP5_QEP4, 60 GPIOB10/CAP6_QEPIB, 61 GPIOB13/C4TRIP, 62 GPIOB14/C5TRIP, 63 GPIOB15/C6TRIP, 71 GPIOB11/TDIRB, 72 GPIOB12/TCLKINB, 79 GPIOD5/T3CTRIP_PDPINTB, 83 GPIOD6/T4CTRIP/~{EVBSOC}, 87 GPIOF6/CANTXA, 89 GPIOF7/CANRXA, 90 GPIOG4/SCITXDB, 91 GPIOG5/SCIRXDB, 92 GPIOA0/PWM1, 93 GPIOA1/PWM2, 94 GPIOA2/PWM3, 95 GPIOA3/PWM4, 98 GPIOA4/PWM5, 101 GPIOA5/PWM6, 102 GPIOA6/T1PWM_T1CMP, 104 GPIOA7/T2PWM_T2CMP, 106 GPIOA8/CAP1_QEP1, 107 GPIOA9/CAP2_QEP2, 109 GPIOA10/CAP3_QEPIA, 110 GPIOD0/T1CTRIP_PDPINTA, 115 GPIOD1/T2CTRIP/~{EVASOC}, 116 GPIOA11/TDIRA, 117 GPIOA12/TCLKINA, 122 GPIOA13/C1TRIP, 123 GPIOA14/C2TRIP, 124 GPIOA15/C3TRIP, 140 GPIOF14/XF_~{XPLLDIS}, 149 GPIOE0/XINT1_~{XBIO}, 150 GPIOE2/XNMI_XINT13, 151 GPIOE1/XINT2_ADCSOC, 155 GPIOF4/SCITXDA, 157 GPIOF5/SCIRXDA
2 alternate drawings of the same symbol
part A text: TMS320LF2812_A
part B text: TMS320LF2812_B
part C text: TMS320LF2812_C
part D text: TMS320LF2812_D

## TPS767D318
designator U?
footprint TSSOP-28
pins: 1 NC1, 2 NC2, 3 1GND, 4 /1EN, 5 1IN_1, 6 1IN_2, 7 NC3, 8 NC4, 9 2GND, 10 /2EN, 11 2IN_1, 12 2IN_2, 13 NC5, 14 NC6, 15 NC13, 16 NC12, 17 2OUT_2, 18 2OUT_1, 19 NC11, 20 NC10, 21 NC9, 22 /2RESET, 23 1OUT_2, 24 1OUT_1, 25 1FB/NC, 26 NC8, 27 NC7, 28 /1RESET
2 alternate drawings of the same symbol

## TR
designator ?
pins: 1, 2, 3, 4
2 alternate drawings of the same symbol

## TR-10A
designator T?
footprint BYQ 18PIN
pins: 1, 2, 3, 4, 5, 6, 7, 8, 9, 10
2 alternate drawings of the same symbol

## TR-12X
designator T?
footprint EC40-12 (12脚变压器)
pins: 1, 2, 3, 4, 5, 6, 7, 8, 9, 10, 11, 12
2 alternate drawings of the same symbol

## TR-14
designator T?
footprint EC40-14 (14脚变压器)
part A pins: 1, 3
part B pins: 4, 5
part C pins: 6, 7
part D pins: 8, 9
part E pins: 10, 11
part F pins: 12, 13
2 alternate drawings of the same symbol

## TR-14A
designator T?
footprint EC40-14 (14脚变压器)
part A pins: 1, 3
part B pins: 4, 5
part C pins: 6, 7, 8
part D pins: 9, 10
part E pins: 11, 12
part F pins: 13, 14
2 alternate drawings of the same symbol

## TR-16A
designator T?
footprint EC40-16 (16脚变压器)
part A pins: 1, 3
part B pins: 4, 5
part C pins: 6, 7, 8
part D pins: 9, 10, 11
part E pins: 12, 13
part F pins: 14, 15
2 alternate drawings of the same symbol

## TR-18A
designator T?
footprint EC40-18 (18脚变压器)
part A pins: 1, 3
part B pins: 4, 5
part C pins: 6, 7, 8
part D pins: 9, 10, 11
part E pins: 12, 13
part F pins: 14, 15
part G pins: 16, 17
2 alternate drawings of the same symbol

## TVS
designator D?
TVS, Transient Voltage Suppose, 瞬时电压抑制
footprint TVS
pins: A, K
2 alternate drawings of the same symbol

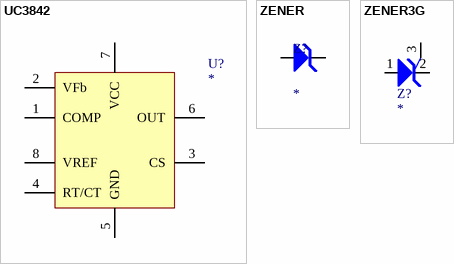
[diagram p5: symbols UC3842 to ZENER3G]

## UC3842
designator U?
UC3842 Current Mode PWM Controller
footprint SO8 (Small Outline; 8 Leads; Body Width 3.9 mm; Pitch 1.27 mm)
pins: 1 COMP, 2 VFb, 3 CS, 4 RT/CT, 5 GND, 6 OUT, 7 VCC, 8 VREF
2 alternate drawings of the same symbol

## ZENER
designator Z?
footprint DIODE0.5
footprint SD-SOD-80
pins: A, K
2 alternate drawings of the same symbol

## ZENER3G
designator Z?
footprint Q-TO-92
pins: 1, 2, 3
2 alternate drawings of the same symbol